# Altium schematic symbol library My_Custom.SchLib: 21 symbols
Pins are listed as number, name and electrical type; pins without a type are passive.

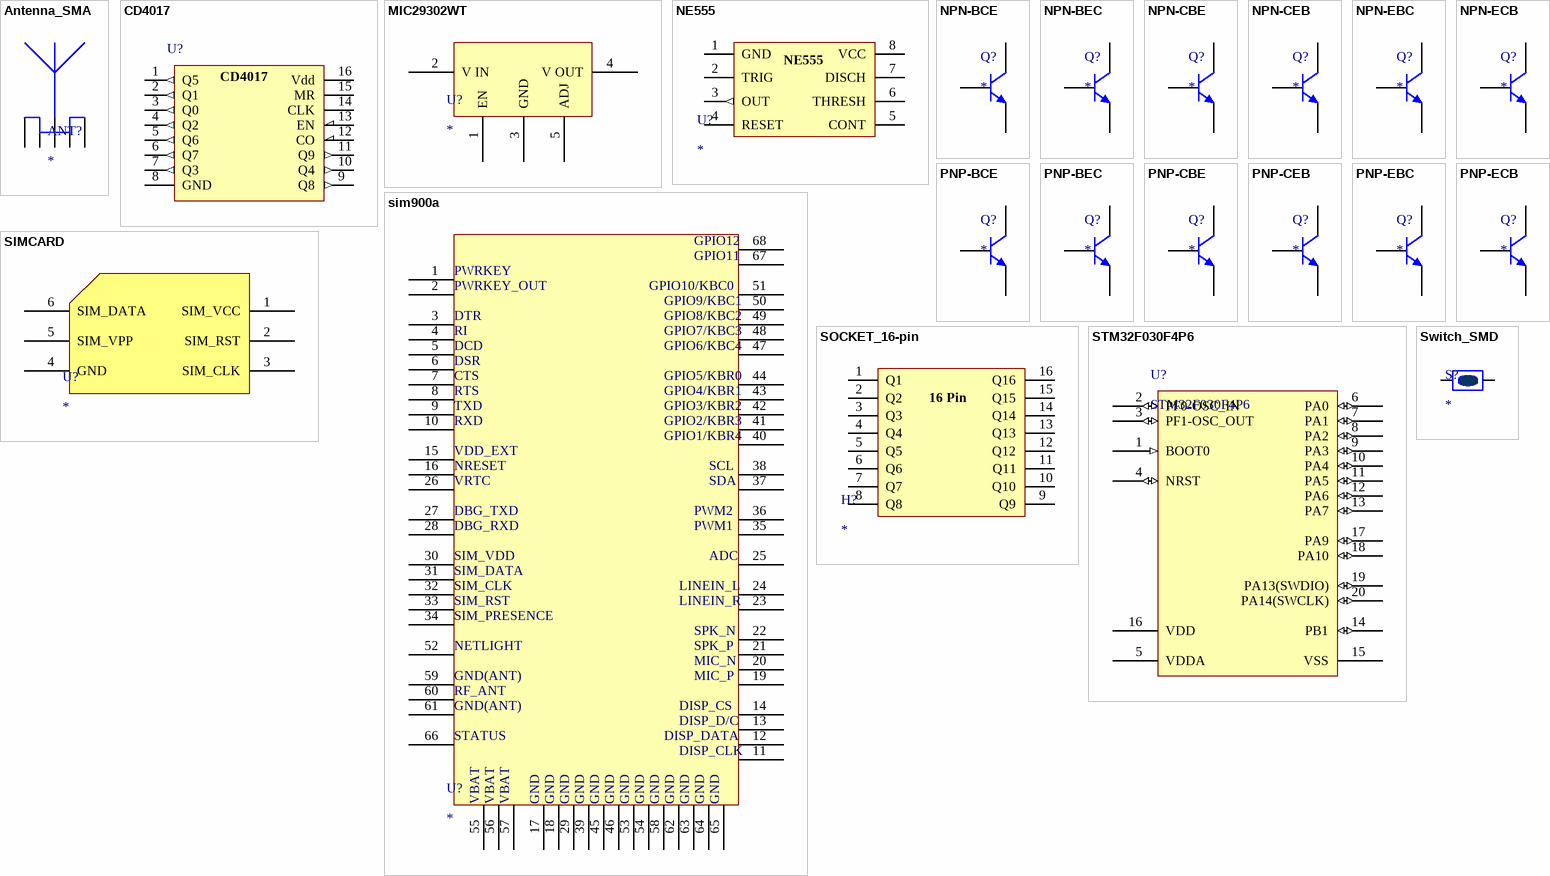
[diagram p0: symbols Antenna_SMA to Switch_SMD]

## Antenna_SMA
designator ANT?
footprint Antenna_SMA
pins: 1, 2, 3, 4, 5

## CD4017
designator U?  (value not drawn)
footprint DIP16
pins: 1 Q5 (out), 2 Q1 (out), 3 Q0 (out), 4 Q2 (out), 5 Q6 (out), 6 Q7 (out), 7 Q3 (out), 8 GND (power), 9 Q8 (out), 10 Q4 (out), 11 Q9 (out), 12 CO, 13 EN, 14 CLK, 15 MR, 16 Vdd (power)

## MIC29302WT
designator U?
footprint D2PIN_5-Pin
pins: 1 EN, 2 V IN, 3 GND, 4 V OUT, 5 ADJ

## NE555
designator U?
footprint DIP8
footprint SOP8_L (SOP, 8-Leads, Body 5.3x5.3mm, Pitch 1.27mm, IPC High Density)
footprint SOP8_M (SOP, 8-Leads, Body 5.3x5.3mm, Pitch 1.27mm, IPC Low Density)
footprint SOP8_N (SOP, 8-Leads, Body 5.3x5.3mm, Pitch 1.27mm, IPC Medium Density)
footprint Model Name (Model Description)
pins: 1 GND (power), 2 TRIG, 3 OUT (out), 4 RESET, 5 CONT, 6 THRESH, 7 DISCH, 8 VCC (power)

## NPN-BCE
designator Q?
Type: NPN
footprint TO-92A
pins: 1 B, 2 C, 3 E

## NPN-BEC
designator Q?
Type: NPN
footprint TO-92A
pins: 1 B, 2 E, 3 C

## NPN-CBE
designator Q?
Type: NPN
footprint TO-92A
pins: 1 C, 2 B, 3 E

## NPN-CEB
designator Q?
Type: NPN
footprint TO-92A
pins: 1 C, 2 E, 3 B

## NPN-EBC
designator Q?
Type: NPN
footprint TO-92A
pins: 1 E, 2 B, 3 C

## NPN-ECB
designator Q?
Type: NPN
footprint TO-92A
pins: 1 E, 2 C, 3 B

## PNP-BCE
designator Q?
Type: PNP
footprint TO-92A
pins: 1 B, 2 C, 3 E

## PNP-BEC
designator Q?
Type: PNP
footprint TO-92A
pins: 1 B, 2 E, 3 C

## PNP-CBE
designator Q?
Type: PNP
footprint TO-92A
pins: 1 C, 2 B, 3 E

## PNP-CEB
designator Q?
Type: PNP
footprint TO-92A
pins: 1 C, 2 E, 3 B

## PNP-EBC
designator Q?
Type: PNP
footprint TO-92A
pins: 1 E, 2 B, 3 C

## PNP-ECB
designator Q?
Type: PNP
footprint TO-92A
pins: 1 E, 2 C, 3 B

## sim900a
designator U?
footprint SIM900a
pins: 1, 2, 3, 4, 5, 6, 7, 8, 9, 10, 11, 12, 13, 14, 15, 16, 17, 18, 19, 20, 21, 22, 23, 24, 25, 26, 27, 28, 29, 30, 31, 32, 33, 34, 35, 36, 37, 38, 39, 40, 41, 42, 43, 44, 45, 46, 47, 48, 49, 50, 51, 52, 53, 54, 55, 56, 57, 58, 59, 60, 61, 62, 63, 64, 65, 66, 67, 68
text: GPIO12; GPIO11; PWRKEY; PWRKEY_OUT; GPIO10/KBC0; GPIO9/KBC1; DTR; GPIO8/KBC2; RI; GPIO7/KBC3; DCD; GPIO6/KBC4; DSR; CTS; GPIO5/KBR0; RTS; GPIO4/KBR1; TXD; GPIO3/KBR2; RXD; GPIO2/KBR3; GPIO1/KBR4; VDD_EXT; NRESET; SCL; VRTC; SDA; DBG_TXD; PWM2; DBG_RXD; PWM1; SIM_VDD; ADC; SIM_DATA; SIM_CLK; LINEIN_L; SIM_RST; LINEIN_R; SIM_PRESENCE; SPK_N; NETLIGHT; SPK_P; MIC_N; GND(ANT); MIC_P; RF_ANT; DISP_CS; DISP_D/C; STATUS; DISP_DATA; DISP_CLK; VBAT; GND

## SIMCARD
designator U?
footprint SIMCARD6pin
pins: 1 SIM_VCC, 2 SIM_RST, 3 SIM_CLK, 4 GND, 5 SIM_VPP, 6 SIM_DATA

## SOCKET_16-pin
designator H?
footprint DIP16
pins: 1 Q1, 2 Q2, 3 Q3, 4 Q4, 5 Q5, 6 Q6, 7 Q7, 8 Q8, 9 Q9, 10 Q10, 11 Q11, 12 Q12, 13 Q13, 14 Q14, 15 Q15, 16 Q16
text: 16 Pin

## STM32F030F4P6
designator U?
Value-line ARM-based 32-bit MCU with 16 to 64-KB Flash, timers,  ADC, communication interfaces, 2.4-3.6 V operation
footprint TSSOP20 (Shrink Small Outline; 20 Leads; Body Width 4.4 mm; Pitch 0.65 mm)
pins: 1 BOOT0 (in), 2 PF0-OSC_IN (io), 3 PF1-OSC_OUT (io), 4 NRST (io), 5 VDDA (power), 6 PA0 (io), 7 PA1 (io), 8 PA2 (io), 9 PA3 (io), 10 PA4 (io), 11 PA5 (io), 12 PA6 (io), 13 PA7 (io), 14 PB1 (io), 15 VSS (power), 16 VDD (power), 17 PA9 (io), 18 PA10 (io), 19 PA13(SWDIO) (io), 20 PA14(SWCLK) (io)

## Switch_SMD
designator S?
footprint SPST_SMD
pins: 1, 2